# Altium footprint library altextraparts.PcbLib: 8 footprints
Each footprint in its own frame and in the unit in brackets; x right, y up, seen from the top. Pads: shape width x height; smd on the part's side, far side on the other; paste and mask are expansions set on the pad; w line width, h text height; cw(c..) or ccw(c..) is an arc to the next point about the centre after c.
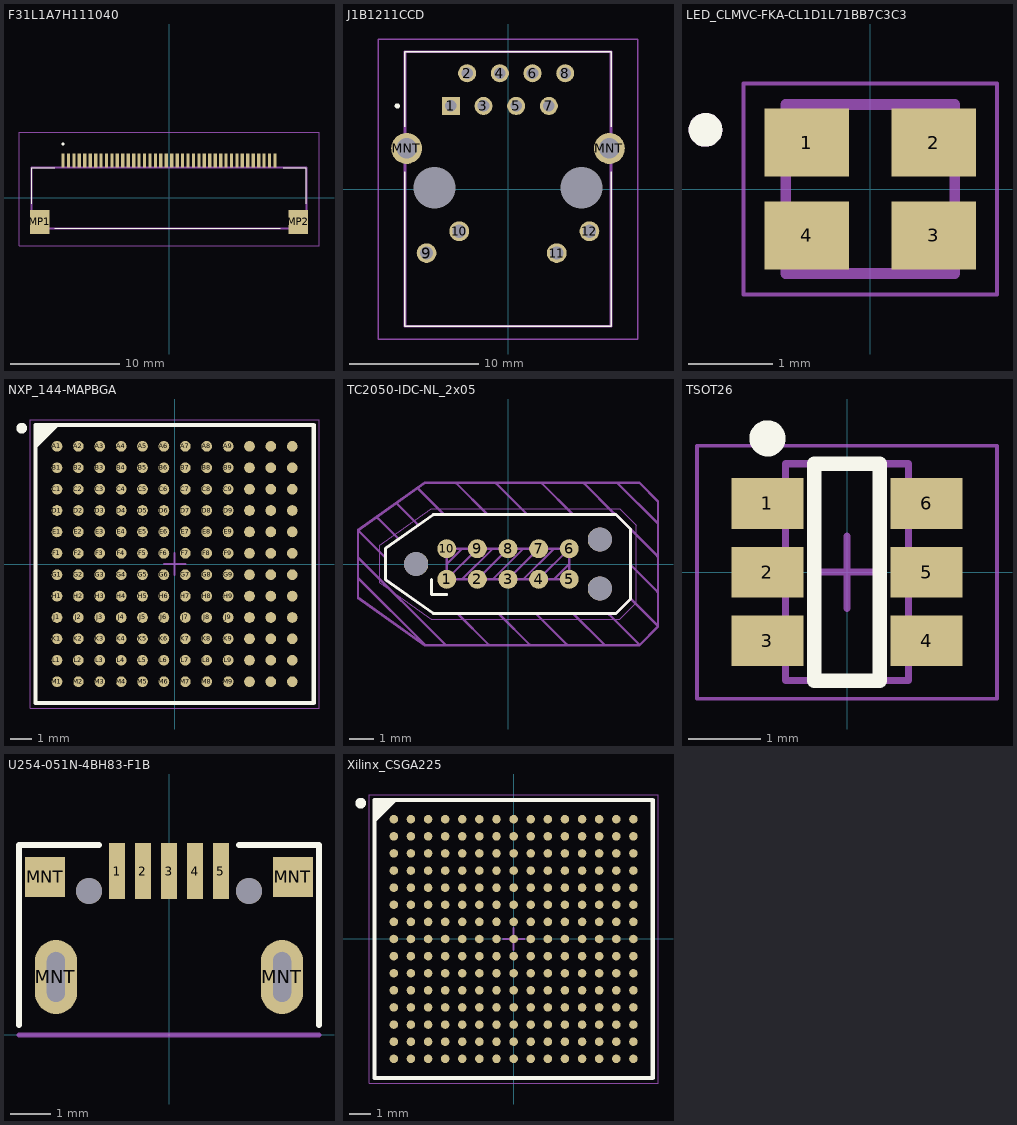
[diagram p0: the footprints below, top view; thin cyan lines are the x and y axes]

## F31L1A7H111040 [mm]
pads (42):
  rect 0.3x1.3 smd: 1(-9.75,3.45) 2(-9.25,3.45) 3(-8.75,3.45) 4(-8.25,3.45) 5(-7.75,3.45) 6(-7.25,3.45) 7(-6.75,3.45) 8(-6.25,3.45) 9(-5.75,3.45) 10(-5.25,3.45) 11(-4.75,3.45) 12(-4.25,3.45) 13(-3.75,3.45) 14(-3.25,3.45) 15(-2.75,3.45) 16(-2.25,3.45) 17(-1.75,3.45) 18(-1.25,3.45) 19(-0.75,3.45) 20(-0.25,3.45) 21(0.25,3.45) 22(0.75,3.45) 23(1.25,3.45) 24(1.75,3.45) 25(2.25,3.45) 26(2.75,3.45) 27(3.25,3.45) 28(3.75,3.45) 29(4.25,3.45) 30(4.75,3.45) 31(5.25,3.45) 32(5.75,3.45) 33(6.25,3.45) 34(6.75,3.45) 35(7.25,3.45) 36(7.75,3.45) 37(8.25,3.45) 38(8.75,3.45) 39(9.25,3.45) 40(9.75,3.45)
  rect 1.8x2.2 smd: MP1(-11.9,-2.2) MP2(11.9,-2.2)
Top Overlay:
  lines w0.1: -12.65,2.8 -12.65,-0.525 -12.65,2.8 ; -12.65,2.8 -10.5,2.8 -12.65,2.8 ; 12.65,2.8 10.5,2.8 12.65,2.8 ; 12.65,2.8 12.65,-0.525 12.65,2.8 ; -10.5,-2.8 10.25,-2.8 -10.5,-2.8
  lines w0.2: -9.75,4.925 cw(c-9.75,4.975) -9.75,5.025 ; -9.75,4.925 ccw(c-9.75,4.975) -9.75,5.025 ; -9.75,4.925 cw(c-9.75,4.975) -9.75,5.025
Mechanical 13:
  lines w0.2: -12.65,-2.8 12.65,-2.8 12.65,2.8 -12.65,2.8 -12.65,-2.8
Mechanical 15:
  lines w0.1: -13.8,-4.375 13.8,-4.375 13.8,6.025 -13.8,6.025 -13.8,-4.375
3D body "F31L-1A7H1-11040.stp": height 2.65, standoff 0, extent -12.65,-3.12 12.65,4.07

## J1B1211CCD [mm]
pads (16):
  rect 1.4x1.4 hole 0.9: 1(-4.445,6.45)
  round 1.4 hole 0.9: 2(-3.175,8.99) 3(-1.905,6.45) 4(-0.635,8.99) 5(0.635,6.45) 6(1.905,8.99) 7(3.175,6.45) 8(4.445,8.99)
  round 1.53 hole 1.02: 9(-6.325,-4.98) 10(-3.785,-3.28) 11(3.785,-4.98) 12(6.325,-3.28)
  round 2.4 hole 1.6: MNT(-7.875,3.15) MNT(7.875,3.15)
  round 1.625 hole 3.25 unplated: ""(-5.715,0.1) ""(5.715,0.1)
Top Overlay:
  lines w0.1: -8,1.35 -8,-10.65 8,-10.65 8,1.35 ; -8,4.85 -8,10.65 8,10.65 8,4.85
  lines w0.2: -8.6,6.35 ccw(c-8.6,6.45) -8.6,6.55 ccw(c-8.6,6.45) -8.6,6.35
Mechanical 13:
  lines w0.2: -8,-10.65 8,-10.65 8,10.65 -8,10.65 -8,-10.65
Mechanical 15:
  lines w0.1: -10.075,-11.65 10.075,-11.65 10.075,11.65 -10.075,11.65 -10.075,-11.65
3D body "J1B1211CCD.stp": height 15.15, standoff -3.66, extent -9.505,-10.632 9.505,10.668

## LED_CLMVC-FKA-CL1D1L71BB7C3C3 [mm]
pads (4):
  rect 1x0.8 smd: 1(-0.75,0.55) 2(0.75,0.55) 3(0.75,-0.55) 4(-0.75,-0.55)
Top Overlay:
  circle w0.2: c-1.95,0.7 r0.1
Mechanical 13:
  circle w0.2: c-1.95,0.7 r0.1
  lines w0.127: -1,-1 -1,1 1,1 1,-1 -1,-1
Mechanical 15:
  lines w0.05: -1.5,-1.25 -1.5,1.25 1.5,1.25 1.5,-1.25 -1.5,-1.25
3D body "step_temp.STEP": height 1, standoff 0, extent -1,-1 1,1

## NXP_144-MAPBGA [mm] "LBGA144, 1.0mm pitch, 13mm x 13mm body"
height 1.7
pads (144):
  round 0.5 smd: A1(-5.5,5.5) A2(-4.5,5.5) A3(-3.5,5.5) A4(-2.5,5.5) A5(-1.5,5.5) A6(-0.5,5.5) A7(0.5,5.5) A8(1.5,5.5) A9(2.5,5.5) A10(3.5,5.5) A11(4.5,5.5) A12(5.5,5.5) B1(-5.5,4.5) B2(-4.5,4.5) B3(-3.5,4.5) B4(-2.5,4.5) B5(-1.5,4.5) B6(-0.5,4.5) B7(0.5,4.5) B8(1.5,4.5) B9(2.5,4.5) B10(3.5,4.5) B11(4.5,4.5) B12(5.5,4.5) C1(-5.5,3.5) C2(-4.5,3.5) C3(-3.5,3.5) C4(-2.5,3.5) C5(-1.5,3.5) C6(-0.5,3.5) C7(0.5,3.5) C8(1.5,3.5) C9(2.5,3.5) C10(3.5,3.5) C11(4.5,3.5) C12(5.5,3.5) D1(-5.5,2.5) D2(-4.5,2.5) D3(-3.5,2.5) D4(-2.5,2.5) D5(-1.5,2.5) D6(-0.5,2.5) D7(0.5,2.5) D8(1.5,2.5) D9(2.5,2.5) D10(3.5,2.5) D11(4.5,2.5) D12(5.5,2.5) E1(-5.5,1.5) E2(-4.5,1.5) E3(-3.5,1.5) E4(-2.5,1.5) E5(-1.5,1.5) E6(-0.5,1.5) E7(0.5,1.5) E8(1.5,1.5) E9(2.5,1.5) E10(3.5,1.5) E11(4.5,1.5) E12(5.5,1.5) F1(-5.5,0.5) F2(-4.5,0.5) F3(-3.5,0.5) F4(-2.5,0.5) F5(-1.5,0.5) F6(-0.5,0.5) F7(0.5,0.5) F8(1.5,0.5) F9(2.5,0.5) F10(3.5,0.5) F11(4.5,0.5) F12(5.5,0.5) G1(-5.5,-0.5) G2(-4.5,-0.5) G3(-3.5,-0.5) G4(-2.5,-0.5) G5(-1.5,-0.5) G6(-0.5,-0.5) G7(0.5,-0.5) G8(1.5,-0.5) G9(2.5,-0.5) G10(3.5,-0.5) G11(4.5,-0.5) G12(5.5,-0.5) H1(-5.5,-1.5) H2(-4.5,-1.5) H3(-3.5,-1.5) H4(-2.5,-1.5) H5(-1.5,-1.5) H6(-0.5,-1.5) H7(0.5,-1.5) H8(1.5,-1.5) H9(2.5,-1.5) H10(3.5,-1.5) H11(4.5,-1.5) H12(5.5,-1.5) J1(-5.5,-2.5) J2(-4.5,-2.5) J3(-3.5,-2.5) J4(-2.5,-2.5) J5(-1.5,-2.5) J6(-0.5,-2.5) J7(0.5,-2.5) J8(1.5,-2.5) J9(2.5,-2.5) J10(3.5,-2.5) J11(4.5,-2.5) J12(5.5,-2.5) K1(-5.5,-3.5) K2(-4.5,-3.5) K3(-3.5,-3.5) K4(-2.5,-3.5) K5(-1.5,-3.5) K6(-0.5,-3.5) K7(0.5,-3.5) K8(1.5,-3.5) K9(2.5,-3.5) K10(3.5,-3.5) K11(4.5,-3.5) K12(5.5,-3.5) L1(-5.5,-4.5) L2(-4.5,-4.5) L3(-3.5,-4.5) L4(-2.5,-4.5) L5(-1.5,-4.5) L6(-0.5,-4.5) L7(0.5,-4.5) L8(1.5,-4.5) L9(2.5,-4.5) L10(3.5,-4.5) L11(4.5,-4.5) L12(5.5,-4.5) M1(-5.5,-5.5) M2(-4.5,-5.5) M3(-3.5,-5.5) M4(-2.5,-5.5) M5(-1.5,-5.5) M6(-0.5,-5.5) M7(0.5,-5.5) M8(1.5,-5.5) M9(2.5,-5.5) M10(3.5,-5.5) M11(4.5,-5.5) M12(5.5,-5.5)
Top Overlay:
  circle w0.25: c-7.15,6.35 r0.125
  region: -5.5,6.5 -6.5,5.5 -6.5,6.5
  lines w0.2: -6.5,5.5 -5.5,6.5 ; -6.5,-6.5 -6.5,6.5 6.5,6.5 6.5,-6.5 -6.5,-6.5
Mechanical 13:
  lines w0.1: -6.5,-6.5 -6.5,6.5 6.5,6.5 6.5,-6.5 -6.5,-6.5
Mechanical 15:
  lines w0.05: -6.75,-6.75 -6.75,6.75 6.75,6.75 6.75,-6.75 -6.75,-6.75
  lines w0.1: -0.5,0 0.5,0 ; 0,-0.5 0,0.5
3D body: height 1.7, standoff 0.43, extent -6.5,-6.5 6.5,6.5

## TC2050-IDC-NL_2x05 [mil]
pads (13):
  round 31 smd paste-15.49: 1(-100,-25) 2(-50,-25) 3(0,-25) 4(50,-25) 5(100,-25) 6(100,25) 7(50,25) 8(0,25) 9(-50,25) 10(-100,25)
  round 39.37 hole 39.37 unplated: ""(-150,0) ""(150,-40) ""(150,40)
Top Overlay:
  lines w4.72: -125,-25 -125,-50 -100,-50 ; -200,-25.59 -200,25.59 -122.05,80.71 176.38,80.71 200,57.09 200,-57.09 176.38,-80.71 -122.05,-80.71 -200,-25.59
Mechanical 2:
  lines w3.94: -244.09,-23.62 -135.83,-131.89 ; -244.09,9.84 -102.36,-131.89 ; -212.6,74.8 -179.13,41.34 ; -200.79,10.91 -245,55.12 ; -181.1,98.43 -147.64,64.96 ; -147.64,124.02 -104.33,80.71 ; -100,0 -75,25 ; -84.65,131.89 -33.46,80.71 ; -82.68,-80.71 -31.5,-131.89 ; -75,-25 -25,25 ; -50,-25 0,25 ; -50,25 -100,-25 ; -25,-25 25,25 ; -19.68,131.89 31.5,80.71 ; -13.78,-82.68 35.43,-131.89 ; 0,-25 50,25 ; 25,-25 75,25 ; 45.28,-80.71 96.46,-131.89 ; 50,-25 100,25 ; 55.12,131.89 106.3,80.71 ; 75,-25 100,0 ; 106.3,-80.71 157.48,-131.89 ; 124.02,131.89 173.23,82.68 175.2,80.71 ; 165.35,-82.68 214.57,-131.89 ; 179.13,131.89 244.09,66.93 ; 200.79,-57.09 244.09,-100.39 ; 200.79,-1.97 244.09,-45.28 ; 244.09,12.99 200,57.09 ; -245,55.12 -245,-55.12 -135.83,-132.68 214.69,-132.68 245,-102.36 245,102.36 214.69,132.68 -135.83,132.68 -245,55.12 ; -100,-25 -100,25 100,25 ; -100,-25 100,-25 100,25 ; 200,57.09 200,-57.09 176.38,-80.71 -122.05,-80.71 -200,-25.59 -200,25.59 -122.05,80.71 176.38,80.71 200,57.09
Mechanical 4:
  lines w1.97: -209.84,-30.32 -209.84,30.32 -125.59,90.55 182.28,90.55 209.84,62.99 209.84,-62.99 182.28,-90.55 -125.59,-90.55 -209.84,-30.32
Mechanical 6:
  text "%R" at -15.47,-11.52 h39.37
Mechanical 7:
  text "KEEPOUT" at -16.5,-4.47 h15.75
  text "6.35mm Z-KEEPOUT" at -7.32,102.66 h19.68
  text "6.35mm Z-KEEPOUT" at -7.32,-113.88 h19.68

## TSOT26 [mm] "SOT23, 6-Leads, Body 2.90x2.80mm, Pitch 0.95mm, IPC Medium Density"
height 1
pads (6):
  rect 1x0.7 smd: 1(-1.1,0.95) 2(-1.1,0) 3(-1.1,-0.95) 4(1.1,-0.95) 5(1.1,0) 6(1.1,0.95)
Top Overlay:
  circle w0.25: c-1.1,1.85 r0.125
  lines w0.2: -0.45,-1.5 0.45,-1.5 0.45,1.5 -0.45,1.5 -0.45,-1.5
Mechanical 13:
  lines w0.1: -0.85,-1.5 -0.85,1.5 0.85,1.5 0.85,-1.5 -0.85,-1.5
Mechanical 15:
  lines w0.05: -2.075,-1.75 -2.075,1.75 2.075,1.75 2.075,-1.75 -2.075,-1.75
  lines w0.1: -0.5,0 0.5,0 ; 0,-0.5 0,0.5
3D body: height 1, standoff 0.05, extent -0.85,-1.5 0.85,1.5

## U254-051N-4BH83-F1B [mm]
pads (11):
  rect 0.4x1.4 smd: 1(-1.3,4.1) 2(-0.65,4.1) 3(0,4.1) 4(0.65,4.1) 5(1.3,4.1)
  rect 1x1 smd: MNT(-3.1,3.95) MNT(3.1,3.95)
  rrect100% 1.05x1.85 hole 0.45 slot 1.25 at 90 deg: MNT(-2.825,1.45) MNT(2.825,1.45)
  round 0.65 hole 0.65 unplated: ""(-2,3.6) ""(2,3.6)
Top Overlay:
  lines w0.15: -3.75,0.25 -3.75,4.75 -1.75,4.75 ; 1.75,4.75 3.75,4.75 3.75,0.25
Mechanical 2:
  lines w0.12: -3.75,0 3.75,0
  text "PCB Edge" at -0.556,0.165 h0.5

## Xilinx_CSGA225 [mm] "BGA, 225-Leads, Body 13.00x13.00mmx1.20mm, Pitch 0.80mm"
height 1.2
pads (225):
  round 0.4 smd mask+0.05: A1(-5.6,5.6) A2(-4.8,5.6) A3(-4,5.6) A4(-3.2,5.6) A5(-2.4,5.6) A6(-1.6,5.6) A7(-0.8,5.6) A8(0,5.6) A9(0.8,5.6) A10(1.6,5.6) A11(2.4,5.6) A12(3.2,5.6) A13(4,5.6) A14(4.8,5.6) A15(5.6,5.6) B1(-5.6,4.8) B2(-4.8,4.8) B3(-4,4.8) B4(-3.2,4.8) B5(-2.4,4.8) B6(-1.6,4.8) B7(-0.8,4.8) B8(0,4.8) B9(0.8,4.8) B10(1.6,4.8) B11(2.4,4.8) B12(3.2,4.8) B13(4,4.8) B14(4.8,4.8) B15(5.6,4.8) C1(-5.6,4) C2(-4.8,4) C3(-4,4) C4(-3.2,4) C5(-2.4,4) C6(-1.6,4) C7(-0.8,4) C8(0,4) C9(0.8,4) C10(1.6,4) C11(2.4,4) C12(3.2,4) C13(4,4) C14(4.8,4) C15(5.6,4) D1(-5.6,3.2) D2(-4.8,3.2) D3(-4,3.2) D4(-3.2,3.2) D5(-2.4,3.2) D6(-1.6,3.2) D7(-0.8,3.2) D8(0,3.2) D9(0.8,3.2) D10(1.6,3.2) D11(2.4,3.2) D12(3.2,3.2) D13(4,3.2) D14(4.8,3.2) D15(5.6,3.2) E1(-5.6,2.4) E2(-4.8,2.4) E3(-4,2.4) E4(-3.2,2.4) E5(-2.4,2.4) E6(-1.6,2.4) E7(-0.8,2.4) E8(0,2.4) E9(0.8,2.4) E10(1.6,2.4) E11(2.4,2.4) E12(3.2,2.4) E13(4,2.4) E14(4.8,2.4) E15(5.6,2.4) F1(-5.6,1.6) F2(-4.8,1.6) F3(-4,1.6) F4(-3.2,1.6) F5(-2.4,1.6) F6(-1.6,1.6) F7(-0.8,1.6) F8(0,1.6) F9(0.8,1.6) F10(1.6,1.6) F11(2.4,1.6) F12(3.2,1.6) F13(4,1.6) F14(4.8,1.6) F15(5.6,1.6) G1(-5.6,0.8) G2(-4.8,0.8) G3(-4,0.8) G4(-3.2,0.8) G5(-2.4,0.8) G6(-1.6,0.8) G7(-0.8,0.8) G8(0,0.8) G9(0.8,0.8) G10(1.6,0.8) G11(2.4,0.8) G12(3.2,0.8) G13(4,0.8) G14(4.8,0.8) G15(5.6,0.8) H1(-5.6,0) H2(-4.8,0) H3(-4,0) H4(-3.2,0) H5(-2.4,0) H6(-1.6,0) H7(-0.8,0) H8(0,0) H9(0.8,0) H10(1.6,0) H11(2.4,0) H12(3.2,0) H13(4,0) H14(4.8,0) H15(5.6,0) J1(-5.6,-0.8) J2(-4.8,-0.8) J3(-4,-0.8) J4(-3.2,-0.8) J5(-2.4,-0.8) J6(-1.6,-0.8) J7(-0.8,-0.8) J8(0,-0.8) J9(0.8,-0.8) J10(1.6,-0.8) J11(2.4,-0.8) J12(3.2,-0.8) J13(4,-0.8) J14(4.8,-0.8) J15(5.6,-0.8) K1(-5.6,-1.6) K2(-4.8,-1.6) K3(-4,-1.6) K4(-3.2,-1.6) K5(-2.4,-1.6) K6(-1.6,-1.6) K7(-0.8,-1.6) K8(0,-1.6) K9(0.8,-1.6) K10(1.6,-1.6) K11(2.4,-1.6) K12(3.2,-1.6) K13(4,-1.6) K14(4.8,-1.6) K15(5.6,-1.6) L1(-5.6,-2.4) L2(-4.8,-2.4) L3(-4,-2.4) L4(-3.2,-2.4) L5(-2.4,-2.4) L6(-1.6,-2.4) L7(-0.8,-2.4) L8(0,-2.4) L9(0.8,-2.4) L10(1.6,-2.4) L11(2.4,-2.4) L12(3.2,-2.4) L13(4,-2.4) L14(4.8,-2.4) L15(5.6,-2.4) M1(-5.6,-3.2) M2(-4.8,-3.2) M3(-4,-3.2) M4(-3.2,-3.2) M5(-2.4,-3.2) M6(-1.6,-3.2) M7(-0.8,-3.2) M8(0,-3.2) M9(0.8,-3.2) M10(1.6,-3.2) M11(2.4,-3.2) M12(3.2,-3.2) M13(4,-3.2) M14(4.8,-3.2) M15(5.6,-3.2) N1(-5.6,-4) N2(-4.8,-4) N3(-4,-4) N4(-3.2,-4) N5(-2.4,-4) N6(-1.6,-4) N7(-0.8,-4) N8(0,-4) N9(0.8,-4) N10(1.6,-4) N11(2.4,-4) N12(3.2,-4) N13(4,-4) N14(4.8,-4) N15(5.6,-4) P1(-5.6,-4.8) P2(-4.8,-4.8) P3(-4,-4.8) P4(-3.2,-4.8) P5(-2.4,-4.8) P6(-1.6,-4.8) P7(-0.8,-4.8) P8(0,-4.8) P9(0.8,-4.8) P10(1.6,-4.8) P11(2.4,-4.8) P12(3.2,-4.8) P13(4,-4.8) P14(4.8,-4.8) P15(5.6,-4.8) R1(-5.6,-5.6) R2(-4.8,-5.6) R3(-4,-5.6) R4(-3.2,-5.6) R5(-2.4,-5.6) R6(-1.6,-5.6) R7(-0.8,-5.6) R8(0,-5.6) R9(0.8,-5.6) R10(1.6,-5.6) R11(2.4,-5.6) R12(3.2,-5.6) R13(4,-5.6) R14(4.8,-5.6) R15(5.6,-5.6)
Top Overlay:
  circle w0.25: c-7.15,6.35 r0.125
  region: -5.549,6.5 -6.5,5.549 -6.5,6.5
  lines w0.2: -6.5,5.549 -5.549,6.5 ; -6.5,-6.5 -6.5,6.5 6.5,6.5 6.5,-6.5 -6.5,-6.5
Mechanical 13:
  lines w0.1: -6.5,-6.5 -6.5,6.5 6.5,6.5 6.5,-6.5 -6.5,-6.5
Mechanical 15:
  lines w0.05: -6.75,-6.75 -6.75,6.75 6.75,6.75 6.75,-6.75 -6.75,-6.75
  lines w0.1: -0.5,0 0.5,0 ; 0,-0.5 0,0.5
3D body: height 1.2, standoff 0.3, extent -6.5,-6.5 6.5,6.5